# Altium footprint library 43045-0421.PcbLib: 1 footprints
Each footprint in its own frame and in the unit in brackets; x right, y up, seen from the top. Pads: shape width x height; smd on the part's side, far side on the other; paste and mask are expansions set on the pad; w line width, h text height; cw(c..) or ccw(c..) is an arc to the next point about the centre after c.
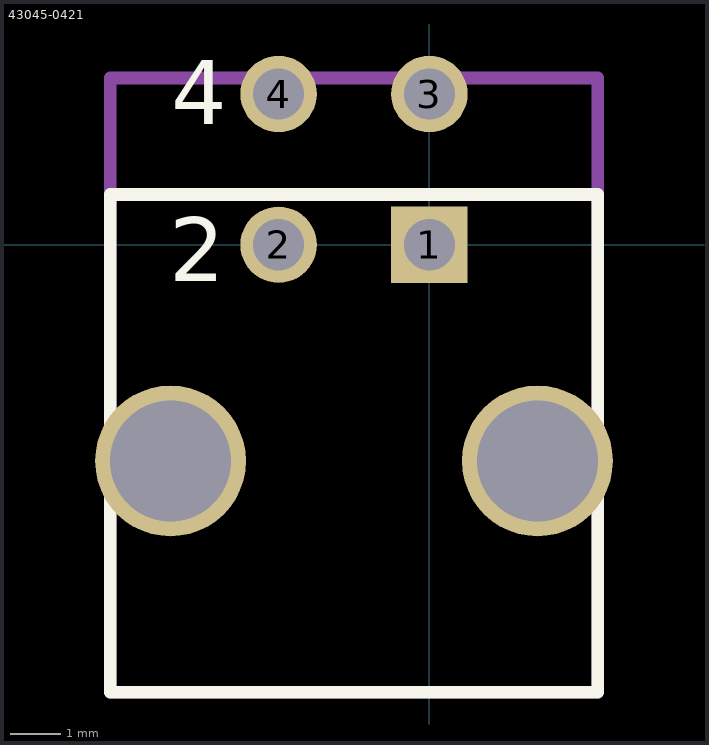
[diagram p0: the footprint, top view; thin cyan lines are the x and y axes]

## 43045-0421 [mm] "Micro-Fit 3.0 Right Angle Header, 3.00mm Pitch, Dual Row, 4 Circuits, with Snap-in Plastic Peg PCB Lock, Tin, Glow Wire Capable, Black"
height 10.29
pads (6):
  rect 1.52x1.52 hole 1.02: 1(0,0)
  round 1.52 hole 1.02: 2(-3,0) 3(0,3) 4(-3,3)
  round 3 hole 2.41 unplated: ""(-5.15,-4.3) ""(2.15,-4.3)
Top Overlay:
  lines w0.254: -6.35,-8.9 -6.35,1 3.35,1 3.35,-8.9 -6.35,-8.9
  text "4" at -5.136,2.402 h1.27
  text "2" at -5.176,-0.725 h1.27
Mechanical 13:
  lines w0.254: -6.35,-8.9 3.35,-8.9 3.35,3.32 -6.35,3.32 -6.35,-8.9
3D body "430450421.stp": height 8.83, standoff -3.12, extent -6.631,-8.92 3.569,3.32